# Altium footprint library B1205S-2WR3.PcbLib: 1 footprints
Each footprint in its own frame and in the unit in brackets; x right, y up, seen from the top. Pads: shape width x height; smd on the part's side, far side on the other; paste and mask are expansions set on the pad; w line width, h text height; cw(c..) or ccw(c..) is an arc to the next point about the centre after c.
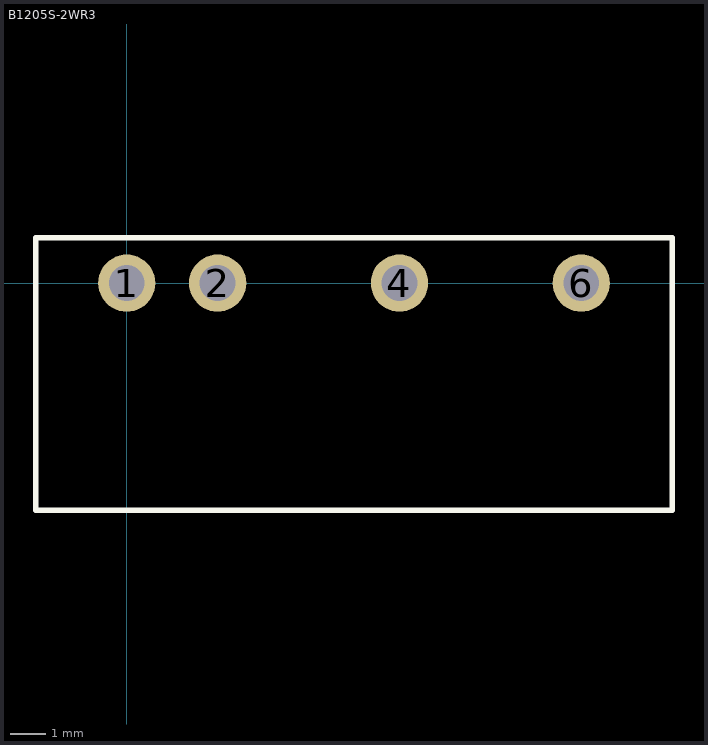
[diagram p0: the footprint, top view; thin cyan lines are the x and y axes]

## B1205S-2WR3 [mm]
pads (4):
  round 1.6 hole 1: 1(0,0) 2(2.54,0) 4(7.62,0) 6(12.7,0)
Top Overlay:
  lines w0.15: -2.54,-6.35 -2.54,0 -2.54,1.27 15.24,1.27 15.24,-6.35 -2.54,-6.35
3D body: height 0, standoff -2.54, extent 12.221,-0.482 13.183,0.482
3D body: height 0, standoff -2.54, extent 7.141,-0.482 8.103,0.482
3D body: height 0, standoff -2.54, extent 2.061,-0.482 3.023,0.482
3D body: height 0, standoff -2.54, extent -0.479,-0.482 0.483,0.482
3D body: height 10.16, standoff 0, extent -2.54,-6.35 15.24,1.27